# EAGLE library part LTC2625 (library FSAE Electric)
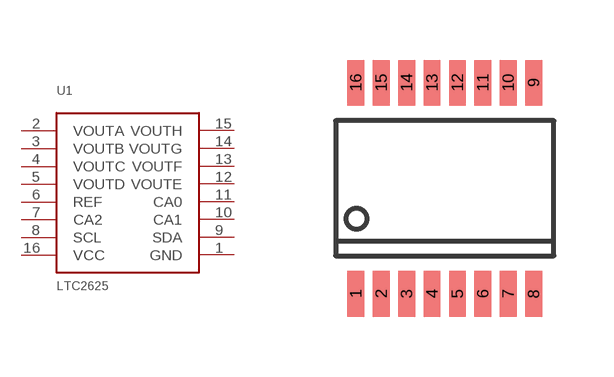
[diagram p39: symbol with the pads of SSOP-16; footprint SSOP-16]

Designator prefix U1

## LTC2625  [SSOP-16]
1  GND
2  VOUTA
3  VOUTB
4  VOUTC
5  VOUTD
6  REF
7  CA2
8  SCL
9  SDA
10  CA1
11  CA0
12  VOUTE
13  VOUTF
14  VOUTG
15  VOUTH
16  VCC

## Footprint SSOP-16 (pad centres in mm)
smd 0.419 x 1.143: 1 -2.223,-2.642; 2 -1.587,-2.642; 3 -0.953,-2.642; 4 -0.318,-2.642; 5 0.318,-2.642; 6 0.953,-2.642; 7 1.587,-2.642; 8 2.223,-2.642; 9 2.223,2.642; 10 1.587,2.642; 11 0.953,2.642; 12 0.318,2.642; 13 -0.318,2.642; 14 -0.953,2.642; 15 -1.587,2.642; 16 -2.223,2.642